# Altium schematic symbol library DIODE,Schottky,20V,2A,SMD.Schlib: 1 symbol
Pins are listed as number, name and electrical type; pins without a type are passive.

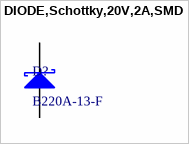
[diagram p0: symbol DIODE,Schottky,20V,2A,SMD]

## DIODE,Schottky,20V,2A,SMD
designator D?, comment B220A-13-F
Diode Schottky 2A Surface Mount SMA
pins: 1 K, 2 A